# Altium footprint library LM317_PSU.PcbLib: 19 footprints (part 2 of 2)
Each footprint in its own frame and in the unit in brackets; x right, y up, seen from the top. Pads: shape width x height; smd on the part's side, far side on the other; paste and mask are expansions set on the pad; w line width, h text height; cw(c..) or ccw(c..) is an arc to the next point about the centre after c.
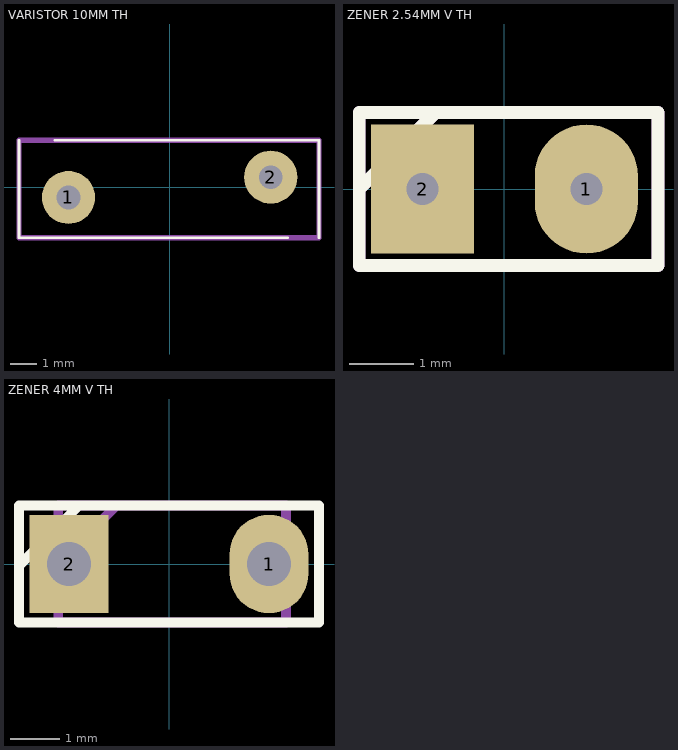
[diagram p1: the footprints below, top view; thin cyan lines are the x and y axes]

## VARISTOR 10MM TH [mm]
pads (2):
  round 2 hole 0.9: 1(-3.81,-0.381) 2(3.81,0.381)
Top Overlay:
  lines w0.1: -5.674,1.778 -5.674,-1.905 4.445,-1.905 ; -4.318,1.774 5.627,1.774 ; 5.627,-1.905 5.627,1.778
Mechanical 13:
  lines w0.2: -5.674,-1.905 5.627,-1.905 5.627,1.778 -5.674,1.778 -5.674,-1.905
Mechanical 15:
  lines w0.1: -5.674,-1.905 5.627,-1.905 5.627,1.778 -5.674,1.778 -5.674,-1.905
Mechanical 29:
  lines w0.1: -5.674,1.778 -5.674,-1.905 4.445,-1.905 ; -4.318,1.774 5.627,1.774 ; 5.627,-1.778 5.627,1.778
  text "'.Designator'" at -1.524,-0.583 h1.3
3D body "Varistor 10mm.STEP": height 15.97, standoff -2.53, extent -5.674,-0.95 5.627,0.9

## ZENER 2.54MM V TH [mm]
pads (2):
  oval 1.6x2 hole 0.5: 1(1.27,0)
  rect 1.6x2 hole 0.5: 2(-1.27,0)
Top Overlay:
  lines w0.1: -2.25,0 -1.062,1.188 ; -2.25,-1.187 2.38,-1.187 2.38,1.188 -2.25,1.188 -2.25,-1.187
  lines w0.2: -2.25,0 -1.063,1.188 ; -2.25,-1.188 2.38,-1.188 2.38,1.188 -2.25,1.188 -2.25,-1.188
Mechanical 29:
  lines w0.1: -2.25,0 -1.062,1.188 ; -2.25,-1.187 2.38,-1.187 2.38,1.188 -2.25,1.188 -2.25,-1.187
  lines w0.2: -2.25,0 -1.063,1.188 ; -2.25,-1.188 2.38,-1.188 2.38,1.188 -2.25,1.188 -2.25,-1.188
  text "'.Designator'" at -1.27,-3.056 h1.5
3D body "Zener 1W_V.STEP": height 6.39, standoff -2, extent -1.626,-1.397 2.642,1.27

## ZENER 4MM V TH [mm]
pads (2):
  oval 1.6x2 hole 0.9: 1(2.032,0)
  rect 1.6x2 hole 0.9: 2(-2.032,0)
Top Overlay:
  lines w0.1: -2.25,-1.187 2.38,-1.187
  lines w0.2: -3.012,0 -1.825,1.188 ; -3.048,-1.188 -3.048,1.188 3.048,1.188 3.048,-1.188 -3.048,-1.188
Mechanical 29:
  lines w0.1: -2.25,0 -1.062,1.188 ; -2.25,-1.187 -2.25,1.188 2.38,1.188 2.38,-1.187 -2.25,-1.187
  lines w0.2: -2.25,0 -1.063,1.188 ; -2.25,-1.188 -2.25,1.188 2.38,1.188 2.38,-1.188 -2.25,-1.188
  text "'.Designator'" at -1.778,-3.056 h1.5
3D body "Zener 4mm_V.STEP": height 7.34, standoff -2.41, extent -2.246,-0.74 2.754,0.762